# EAGLE library part NCP1529 (library ON Semiconductor)
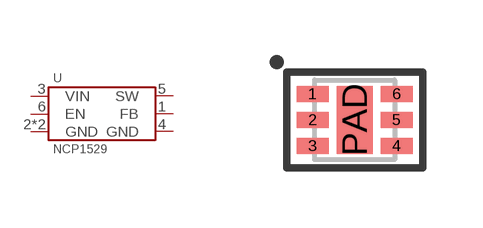
[diagram p3: symbol with the pads of UDFN-6-2X2; footprint UDFN-6-2X2]

Designator prefix U

## NCP1529MU12TBG  [UDFN-6-2X2]
1  FB
2  GND
3  VIN
4  GND
5  SW
6  EN
PAD  GND

## Footprint UDFN-6-2X2 (pad centres in mm)
smd 0.8 x 0.4: 1 -1.05,0.65; 2 -1.05,0; 3 -1.05,-0.65; 4 1.05,-0.65; 5 1.05,0; 6 1.05,0.65
smd 0.9 x 1.7: PAD 0,0